# EAGLE library part SN74CBTLV3257* (library DAC)
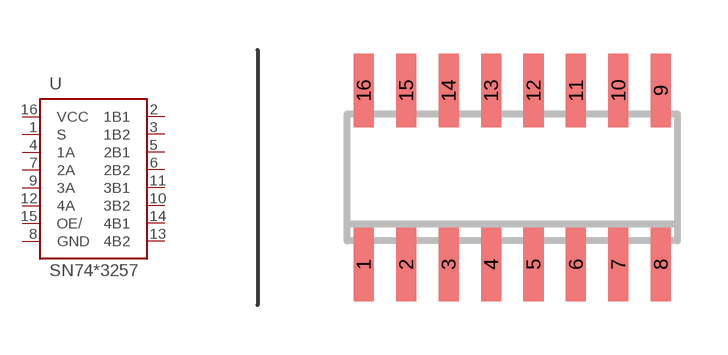
[diagram p6: symbol with the pads of SOIC16; footprint SOIC16]

Designator prefix U

## SN74CBTLV3257D  [SOIC16]
1  S
2  1B1
3  1B2
4  1A
5  2B1
6  2B2
7  2A
8  GND  pwr
9  3A
10  3B2
11  3B1
12  4A
13  4B2
14  4B1
15  OE/
16  VCC  pwr

## Footprint SOIC16 (pad centres in mm)
smd 0.6 x 2.2: 1 -4.445,-2.6; 2 -3.175,-2.6; 3 -1.905,-2.6; 4 -0.635,-2.6; 5 0.635,-2.6; 6 1.905,-2.6; 7 3.175,-2.6; 8 4.445,-2.6; 9 4.445,2.6; 10 3.175,2.6; 11 1.905,2.6; 12 0.635,2.6; 13 -0.635,2.6; 14 -1.905,2.6; 15 -3.175,2.6; 16 -4.445,2.6